# Altium schematic symbol library MCP2561.SchLib: 2 symbols
Pins are listed as number, name and electrical type; pins without a type are passive.

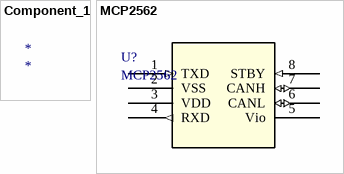
[diagram p0: symbols Component_1 to MCP2562]

## Component_1
designator *

## MCP2562
designator U?
No Description Available; Vendor: Microchip; Built_By: EMA_Jessica; SourceLibrary: Microchip_2019-08-23_14; Manufacturer_Part_Number: MCP2562; Copyright: Copyright (C) 2018 Accelerated Designs. All rights reserved; RefDes: RefDes; Type: DEV
footprint SOIC8-N_MC_MCH
pins: 1 TXD (in), 2 VSS (power), 3 VDD (power), 4 RXD (out), 5 Vio, 6 CANL (io), 7 CANH (io), 8 STBY (in)